# Altium schematic symbol library SN74LS47D.SchLib: 1 symbol
Pins are listed as number, name and electrical type; pins without a type are passive.

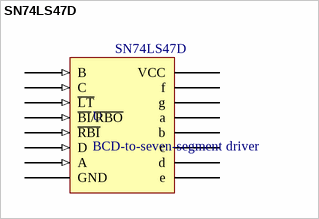
[diagram p0: symbol SN74LS47D]

## SN74LS47D
designator U, comment BCD-to-seven-segment driver
footprint SOIC127P600X175-16N (SOIC, 16-Leads, Body 9.95x3.90mm, Pitch 1.27mm, IPC Medium Density)
pins: 1 B (in), 2 C (in), 3 ~{LT} (in), 4 ~{BI}/~{RBO} (in), 5 ~{RBI} (in), 6 D (in), 7 A (in), 8 GND (power), 9 e (oc), 10 d (oc), 11 c (oc), 12 b (oc), 13 a (oc), 14 g (oc), 15 f (oc), 16 VCC (power)